# Altium schematic symbol library WCAP-ATLI.SchLib: 162 symbols (part 4 of 4)
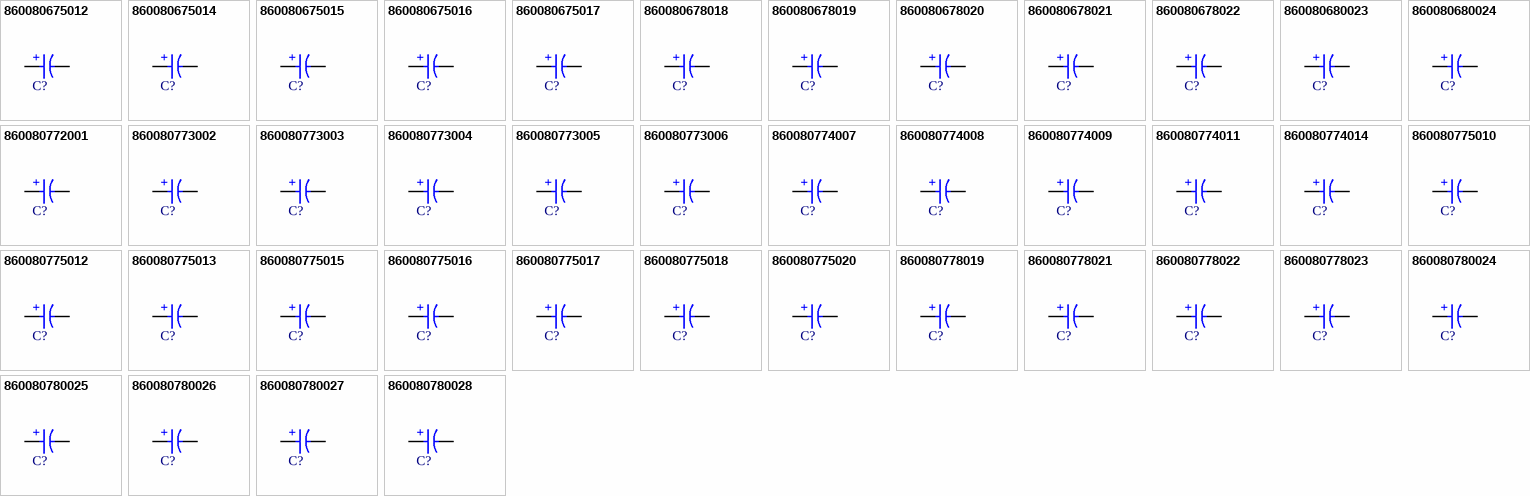
[diagram p7: symbols 860080675012 to 860080780028]

## 860080780024
designator C?, comment 470µF  (value not drawn)
WCAP-ATLI Aluminum Electrolytic Capacitor, Radial, THT, D16 x H21mm, 470µF, 63V; Manufacturer Part Number: 860080780024; Manufacturer: Wurth Elektronik; Capacitance Tolerance: +/-20%; Dissipation Factor: 8%; Endurance: 5000h; Leakage Current: 296.1µA; Ripple Current: 1970mA; Technical Reference: ATEK210471M063DSPAEE000; Category: Aluminum Electrolytic Capacitors; Match Code: WCAP-ATLI; ComponentLink1Description: Website Link; ComponentLink1URL: https://www.we-online.com/redexpert/article/860080780024?ad; ComponentLink2Description: Datasheet Link; ComponentLink2URL: https://www.we-online.com/redexpert/spec/860080780024?ad; Mount: Through Hole; Operating Temperature Max: 105°C; Operating Temperature Min: -55°C; Packaging: Ammo Pack; Height: 21mm; Diameter: 16mm; Capacitance: 470µF; Rated Voltage (DC): 63V
footprint WCAP-ATLI_D16H21
simulation model 860080780024_470uF
pins: 1 P, 2 N
text: +

## 860080780025
designator C?, comment 560µF  (value not drawn)
WCAP-ATLI Aluminum Electrolytic Capacitor, Radial, THT, D16 x H25mm, 560µF, 63V; Manufacturer Part Number: 860080780025; Manufacturer: Wurth Elektronik; Capacitance Tolerance: +/-20%; Dissipation Factor: 8%; Endurance: 5000h; Leakage Current: 352.8µA; Ripple Current: 2350mA; Technical Reference: ATEK250561M063DSPAEE000; Category: Aluminum Electrolytic Capacitors; Match Code: WCAP-ATLI; ComponentLink1Description: Website Link; ComponentLink1URL: https://www.we-online.com/redexpert/article/860080780025?ad; ComponentLink2Description: Datasheet Link; ComponentLink2URL: https://www.we-online.com/redexpert/spec/860080780025?ad; Mount: Through Hole; Operating Temperature Max: 105°C; Operating Temperature Min: -55°C; Packaging: Ammo Pack; Height: 25mm; Diameter: 16mm; Capacitance: 560µF; Rated Voltage (DC): 63V
footprint WCAP-ATLI_D16H25
simulation model 860080780025_560uF
pins: 1 P, 2 N
text: +

## 860080780026
designator C?, comment 680µF  (value not drawn)
WCAP-ATLI Aluminum Electrolytic Capacitor, Radial, THT, D16 x H31.5mm, 680µF, 63V; Manufacturer Part Number: 860080780026; Manufacturer: Wurth Elektronik; Capacitance Tolerance: +/-20%; Dissipation Factor: 8%; Endurance: 5000h; Leakage Current: 428.4µA; Ripple Current: 2600mA; Technical Reference: ATEK315681M063DSPADE000; Category: Aluminum Electrolytic Capacitors; Match Code: WCAP-ATLI; ComponentLink1Description: Website Link; ComponentLink1URL: https://www.we-online.com/redexpert/article/860080780026?ad; ComponentLink2Description: Datasheet Link; ComponentLink2URL: https://www.we-online.com/redexpert/spec/860080780026?ad; Mount: Through Hole; Operating Temperature Max: 105°C; Operating Temperature Min: -55°C; Packaging: Ammo Pack; Height: 31.5mm; Diameter: 16mm; Capacitance: 680µF; Rated Voltage (DC): 63V
footprint WCAP-ATLI_D16H31.5
simulation model 860080780026_680uF
pins: 1 P, 2 N
text: +

## 860080780027
designator C?, comment 820µF  (value not drawn)
WCAP-ATLI Aluminum Electrolytic Capacitor, Radial, THT, D16 x H31.5mm, 820µF, 63V; Manufacturer Part Number: 860080780027; Manufacturer: Wurth Elektronik; Capacitance Tolerance: +/-20%; Dissipation Factor: 8%; Endurance: 5000h; Leakage Current: 516.6µA; Ripple Current: 2650mA; Technical Reference: ATEK315821M063DSPADE000; Category: Aluminum Electrolytic Capacitors; Match Code: WCAP-ATLI; ComponentLink1Description: Website Link; ComponentLink1URL: https://www.we-online.com/redexpert/article/860080780027?ad; ComponentLink2Description: Datasheet Link; ComponentLink2URL: https://www.we-online.com/redexpert/spec/860080780027?ad; Mount: Through Hole; Operating Temperature Max: 105°C; Operating Temperature Min: -55°C; Packaging: Ammo Pack; Height: 31.5mm; Diameter: 16mm; Capacitance: 820µF; Rated Voltage (DC): 63V
footprint WCAP-ATLI_D16H31.5
simulation model 860080780027_820uF
pins: 1 P, 2 N
text: +

## 860080780028
designator C?, comment 1000µF  (value not drawn)
WCAP-ATLI Aluminum Electrolytic Capacitor, Radial, THT, D16 x H35.5mm, 1000µF, 63V; Manufacturer Part Number: 860080780028; Manufacturer: Wurth Elektronik; Capacitance Tolerance: +/-20%; Dissipation Factor: 8%; Endurance: 5000h; Leakage Current: 630µA; Ripple Current: 2780mA; Technical Reference: ATEK355102M063DSPADE000; Category: Aluminum Electrolytic Capacitors; Match Code: WCAP-ATLI; ComponentLink1Description: Website Link; ComponentLink1URL: https://www.we-online.com/redexpert/article/860080780028?ad; ComponentLink2Description: Datasheet Link; ComponentLink2URL: https://www.we-online.com/redexpert/spec/860080780028?ad; Mount: Through Hole; Operating Temperature Max: 105°C; Operating Temperature Min: -55°C; Packaging: Ammo Pack; Height: 35.5mm; Diameter: 16mm; Capacitance: 1000µF; Rated Voltage (DC): 63V
footprint WCAP-ATLI_D16H35.5
simulation model 860080780028_1mF
pins: 1 P, 2 N
text: +

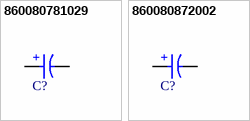
[diagram p4: symbols 860080781029 to 860080872002]

## 860080781029
designator C?, comment 1000µF  (value not drawn)
WCAP-ATLI Aluminum Electrolytic Capacitor, Radial, THT, D18 x H31.5mm, 1000µF, 63V; Manufacturer Part Number: 860080781029; Manufacturer: Wurth Elektronik; Capacitance Tolerance: +/-20%; Dissipation Factor: 8%; Endurance: 5000h; Leakage Current: 630µA; Ripple Current: 3230mA; Technical Reference: ATEL315102M063DSPAEE000; Category: Aluminum Electrolytic Capacitors; Match Code: WCAP-ATLI; ComponentLink1Description: Website Link; ComponentLink1URL: https://www.we-online.com/redexpert/article/860080781029?ad; ComponentLink2Description: Datasheet Link; ComponentLink2URL: https://www.we-online.com/redexpert/spec/860080781029?ad; Mount: Through Hole; Operating Temperature Max: 105°C; Operating Temperature Min: -55°C; Packaging: Ammo Pack; Height: 31.5mm; Diameter: 18mm; Capacitance: 1000µF; Rated Voltage (DC): 63V
footprint WCAP-ATLI_D18H31.5
simulation model 860080781029_1mF
pins: 1 P, 2 N
text: +

## 860080872002
designator C?, comment 4.7µF  (value not drawn)
WCAP-ATLI Aluminum Electrolytic Capacitor, Radial, THT, D5 x H11mm, 4.7µF, 100V; Manufacturer Part Number: 860080872002; Manufacturer: Wurth Elektronik; Capacitance Tolerance: +/-20%; Dissipation Factor: 8%; Endurance: 2000h; Leakage Current: 4.7µA; Ripple Current: 125mA; Technical Reference: ATEC1104R7M100DSPA3B0RE; Category: Aluminum Electrolytic Capacitors; Match Code: WCAP-ATLI; ComponentLink1Description: Website Link; ComponentLink1URL: https://www.we-online.com/redexpert/article/860080872002?ad; ComponentLink2Description: Datasheet Link; ComponentLink2URL: https://www.we-online.com/redexpert/spec/860080872002?ad; Mount: Through Hole; Operating Temperature Max: 105°C; Operating Temperature Min: -55°C; Packaging: Ammo Pack; Height: 11mm; Diameter: 5mm; Capacitance: 4.7µF; Rated Voltage (DC): 100V
footprint WCAP-ATLI_D5H11
simulation model 860080872002_4.7uF
pins: 1 P, 2 N
text: +